# EAGLE library part PCF85263A (library rtc_pcf85262a)
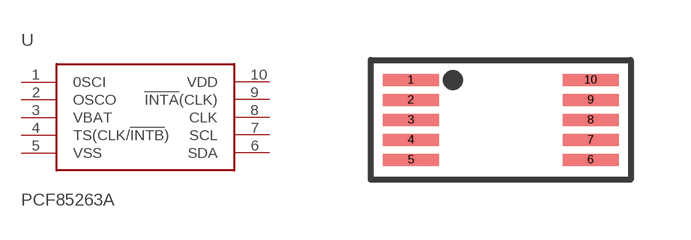
[diagram p0: symbol with the pads of TSSOP-10; footprint TSSOP-10]

Designator prefix -

## PCF85263A  [TSSOP-10]
1  0SCI
2  OSCO
3  VBAT
4  TS(CLK/!INTB!)
5  VSS
6  SDA
7  SCL
8  CLK
9  !INTA!(CLK)
10  VDD

## Footprint TSSOP-10 (pad centres in mm)
smd 1.4 x 0.3: 1 -2.25,1; 2 -2.25,0.5; 3 -2.25,0; 4 -2.25,-0.5; 5 -2.25,-1; 6 2.25,-1; 7 2.25,-0.5; 8 2.25,0; 9 2.25,0.5; 10 2.25,1